# Altium schematic symbol library AS5115.SchLib: 2 symbols
Pins are listed as number, name and electrical type; pins without a type are passive.

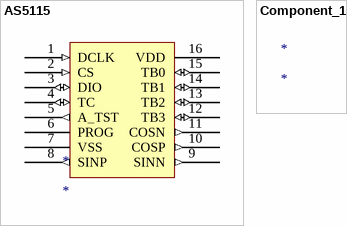
[diagram p0: symbols AS5115 to Component_1]

## AS5115
designator *
footprint SSOP16
pins: 1 DCLK (in), 2 CS (in), 3 DIO (io), 4 TC (io), 5 A_TST (out), 6 PROG, 7 VSS, 8 SINP (out), 9 SINN (out), 10 COSP (out), 11 COSN (out), 12 TB3 (io), 13 TB2 (io), 14 TB1 (io), 15 TB0 (io), 16 VDD

## Component_1
designator *